# Altium footprint library POWER_SUPPLY.PcbLib: 4 footprints
Each footprint in its own frame and in the unit in brackets; x right, y up, seen from the top. Pads: shape width x height; smd on the part's side, far side on the other; paste and mask are expansions set on the pad; w line width, h text height; cw(c..) or ccw(c..) is an arc to the next point about the centre after c.
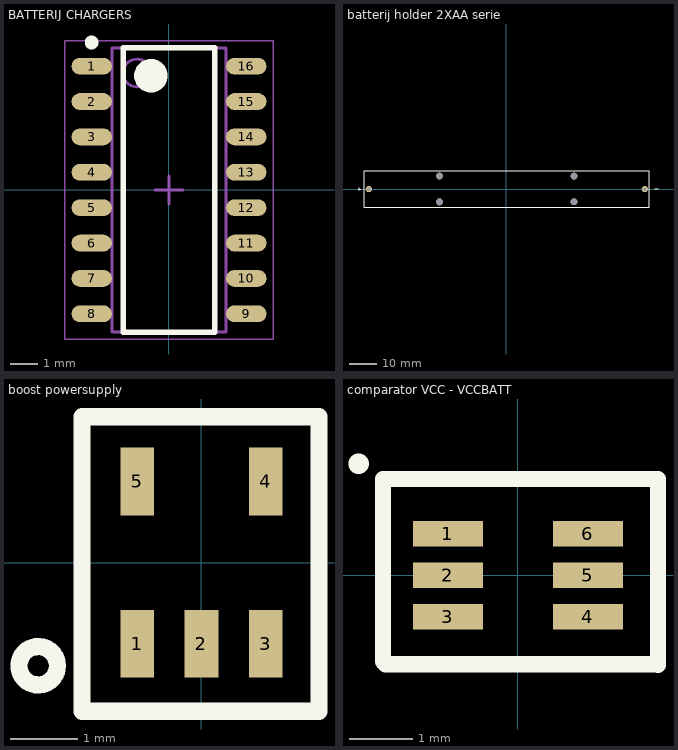
[diagram p0: the footprints below, top view; thin cyan lines are the x and y axes]

## BATTERIJ CHARGERS [mm] "LTC4060"
pads (16):
  oval 1.45x0.6 smd: 1(-2.775,4.445) 2(-2.775,3.175) 3(-2.775,1.905) 4(-2.775,0.635) 5(-2.775,-0.635) 6(-2.775,-1.905) 7(-2.775,-3.175) 8(-2.775,-4.445) 9(2.775,-4.445) 10(2.775,-3.175) 11(2.775,-1.905) 12(2.775,-0.635) 13(2.775,0.635) 14(2.775,1.905) 15(2.775,3.175) 16(2.775,4.445)
Top Overlay:
  circle w0.6: c-0.65,4.1 r0.3
  circle w0.25: c-2.775,5.295 r0.125
  lines w0.2: -1.65,-5.1 1.65,-5.1 1.65,5.1 -1.65,5.1 -1.65,-5.1
Mechanical 13:
  circle w0.1: c-1.15,4.2 r0.5
  lines w0.1: -2.05,-5.1 2.05,-5.1 2.05,5.1 -2.05,5.1 -2.05,-5.1
Mechanical 15:
  lines w0.05: -3.75,-5.35 3.75,-5.35 3.75,5.35 -3.75,5.35 -3.75,-5.35
  lines w0.1: -0.5,0 0.5,0 ; 0,-0.5 0,0.5
3D body "DS2712ZB+.STEP": height 1.75, standoff 0, extent -2.873,-5.025 3.127,4.975

## batterij holder 2XAA serie [mm] "BC12AAPC"
pads (6):
  round 2.3 hole 1.3: 1(-50.873,0.127) 2(51.127,0.127)
  round 2.5 hole 2.5 unplated: ""(-24.74,-4.623) ""(-24.74,4.928) ""(24.968,-4.597) ""(24.994,4.902)
Top Overlay:
  lines w0.254: -54.864,0.127 -54.356,0.127 -53.848,0.127 ; -54.356,-0.381 -54.356,0.635 ; 55.372,0.254 54.737,0.254 56.007,0.254 ; -52.481,-6.595 -52.481,6.869 52.771,6.869 52.771,-6.595 -52.481,-6.595
3D body "BC12AAPC--3DModel-STEP-56544.STEP": height 13.7, standoff -11.2, extent -53.797,-7.95 54.003,8.25

## boost powersupply [mm] "XC9142B50DMR-G"
pads (5):
  rect 0.5x1 smd: 1(-0.95,-1.2) 2(0,-1.2) 3(0.95,-1.2) 4(0.95,1.2) 5(-0.95,1.2)
Top Overlay:
  circle w0.254: c-2.413,-1.524 r0.284
  lines w0.254: -1.766,-2.198 -1.766,2.158 1.737,2.158 1.737,-2.198 -1.766,-2.198
3D body "XC9142B50DMR-G.STEP": height 1.3, standoff 0, extent -1.45,-1.527 1.45,1.273

## comparator VCC - VCCBATT [mm] "TLV3011AIDCKT"
pads (6):
  rect 1.1x0.4 smd: 1(-1.1,0.65) 2(-1.1,0) 3(-1.1,-0.65) 4(1.1,-0.65) 5(1.1,0) 6(1.1,0.65)
Top Overlay:
  circle w0.3: c-2.502,1.752 r0.01
  lines w0.254: -2.121,-1.354 -2.077,-1.397 1.361,-1.397 2.192,-1.397 2.202,-1.407 2.202,-0.335 2.202,0.459 2.202,1.514 -2.121,1.514 -2.121,-1.354
3D body "TLV3011AIDCKTG4.STEP": height 1.1, standoff 0, extent -1.109,-0.985 0.991,1.015